# EAGLE library part 6PIN_1.27MM_POGO (library i2c_encoder)
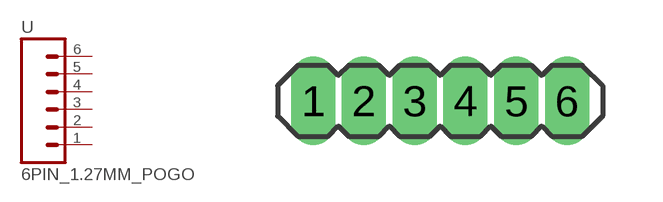
[diagram p6: symbol with the pads of 1X06-1.27MM_POGO; footprint 1X06-1.27MM_POGO]

Designator prefix -

## 6PIN_1.27MM_POGO  [1X06-1.27MM_POGO]
1  1  pas
2  2  pas
3  3  pas
4  4  pas
5  5  pas
6  6  pas

## Footprint 1X06-1.27MM_POGO (pad centres in mm)
drill 0.6 long: 1 0,0; 2 1.27,0; 3 2.54,0; 4 3.81,0; 5 5.08,0; 6 6.35,0